# Altium schematic symbol library 大风车.SchLib: 11 symbols
Pins are listed as number, name and electrical type; pins without a type are passive.

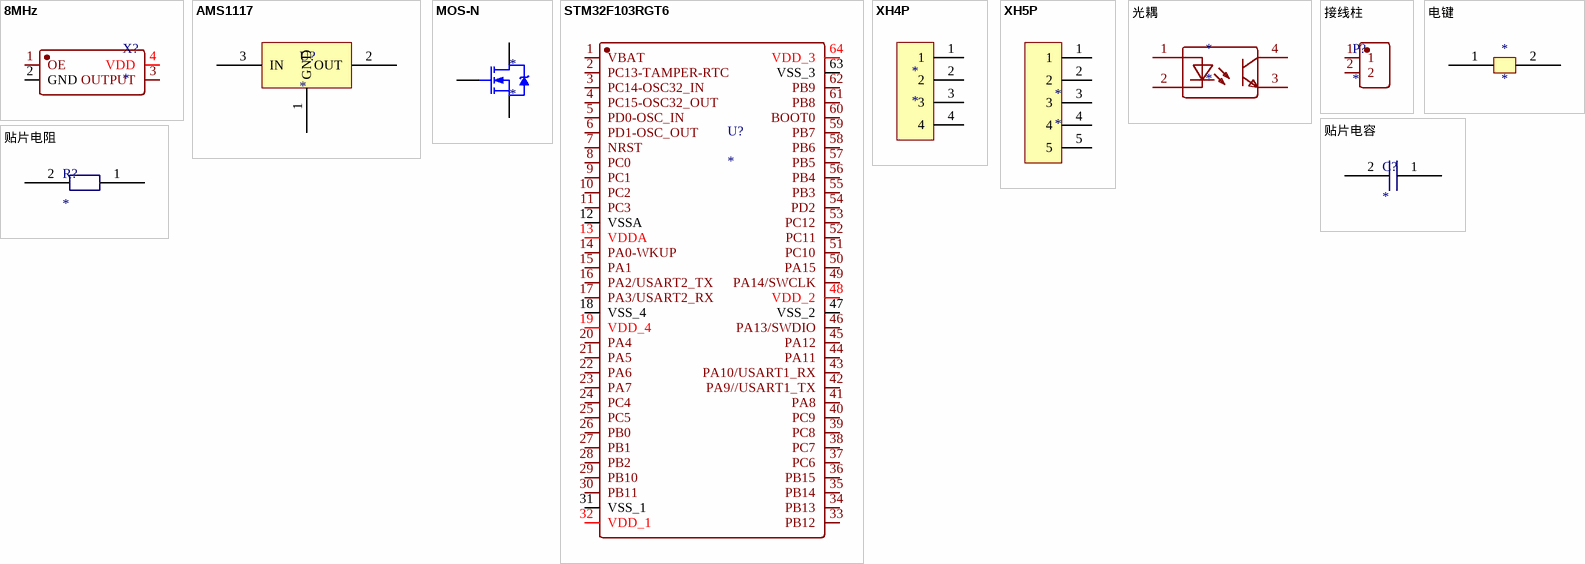
[diagram p0: symbols 8MHz to 贴片电阻]

## 8MHz
designator X?
pins: 1 OE, 2 GND, 3 OUTPUT, 4 VDD

## AMS1117
designator U?
pins: 1 GND, 2 OUT, 3 IN

## MOS-N
designator *
pins: D, G, S

## STM32F103RGT6
designator U?
pins: 1 VBAT, 2 PC13-TAMPER-RTC, 3 PC14-OSC32_IN, 4 PC15-OSC32_OUT, 5 PD0-OSC_IN, 6 PD1-OSC_OUT, 7 NRST, 8 PC0, 9 PC1, 10 PC2, 11 PC3, 12 VSSA, 13 VDDA, 14 PA0-WKUP, 15 PA1, 16 PA2/USART2_TX, 17 PA3/USART2_RX, 18 VSS_4, 19 VDD_4, 20 PA4, 21 PA5, 22 PA6, 23 PA7, 24 PC4, 25 PC5, 26 PB0, 27 PB1, 28 PB2, 29 PB10, 30 PB11, 31 VSS_1, 32 VDD_1, 33 PB12, 34 PB13, 35 PB14, 36 PB15, 37 PC6, 38 PC7, 39 PC8, 40 PC9, 41 PA8, 42 PA9//USART1_TX, 43 PA10/USART1_RX, 44 PA11, 45 PA12, 46 PA13/SWDIO, 47 VSS_2, 48 VDD_2, 49 PA14/SWCLK, 50 PA15, 51 PC10, 52 PC11, 53 PC12, 54 PD2, 55 PB3, 56 PB4, 57 PB5, 58 PB6, 59 PB7, 60 BOOT0, 61 PB8, 62 PB9, 63 VSS_3, 64 VDD_3

## XH4P
designator *
pins: 1, 2, 3, 4

## XH5P
designator *
pins: 1, 2, 3, 4, 5 (power)

## 光耦
designator *
pins: 1 AN, 2 CAT, 3 EM, 4 COL

## 接线柱
designator P?
pins: 1, 2

## 电键
designator *
pins: 1, 2

## 贴片电容
designator C?
pins: 1, 2

## 贴片电阻
designator R?
pins: 1, 2